# Altium footprint library smd-special.PCBLIB: 55 footprints (part 2 of 4)
Each footprint in its own frame and in the unit in brackets; x right, y up, seen from the top. Pads: shape width x height; smd on the part's side, far side on the other; paste and mask are expansions set on the pad; w line width, h text height; cw(c..) or ccw(c..) is an arc to the next point about the centre after c.
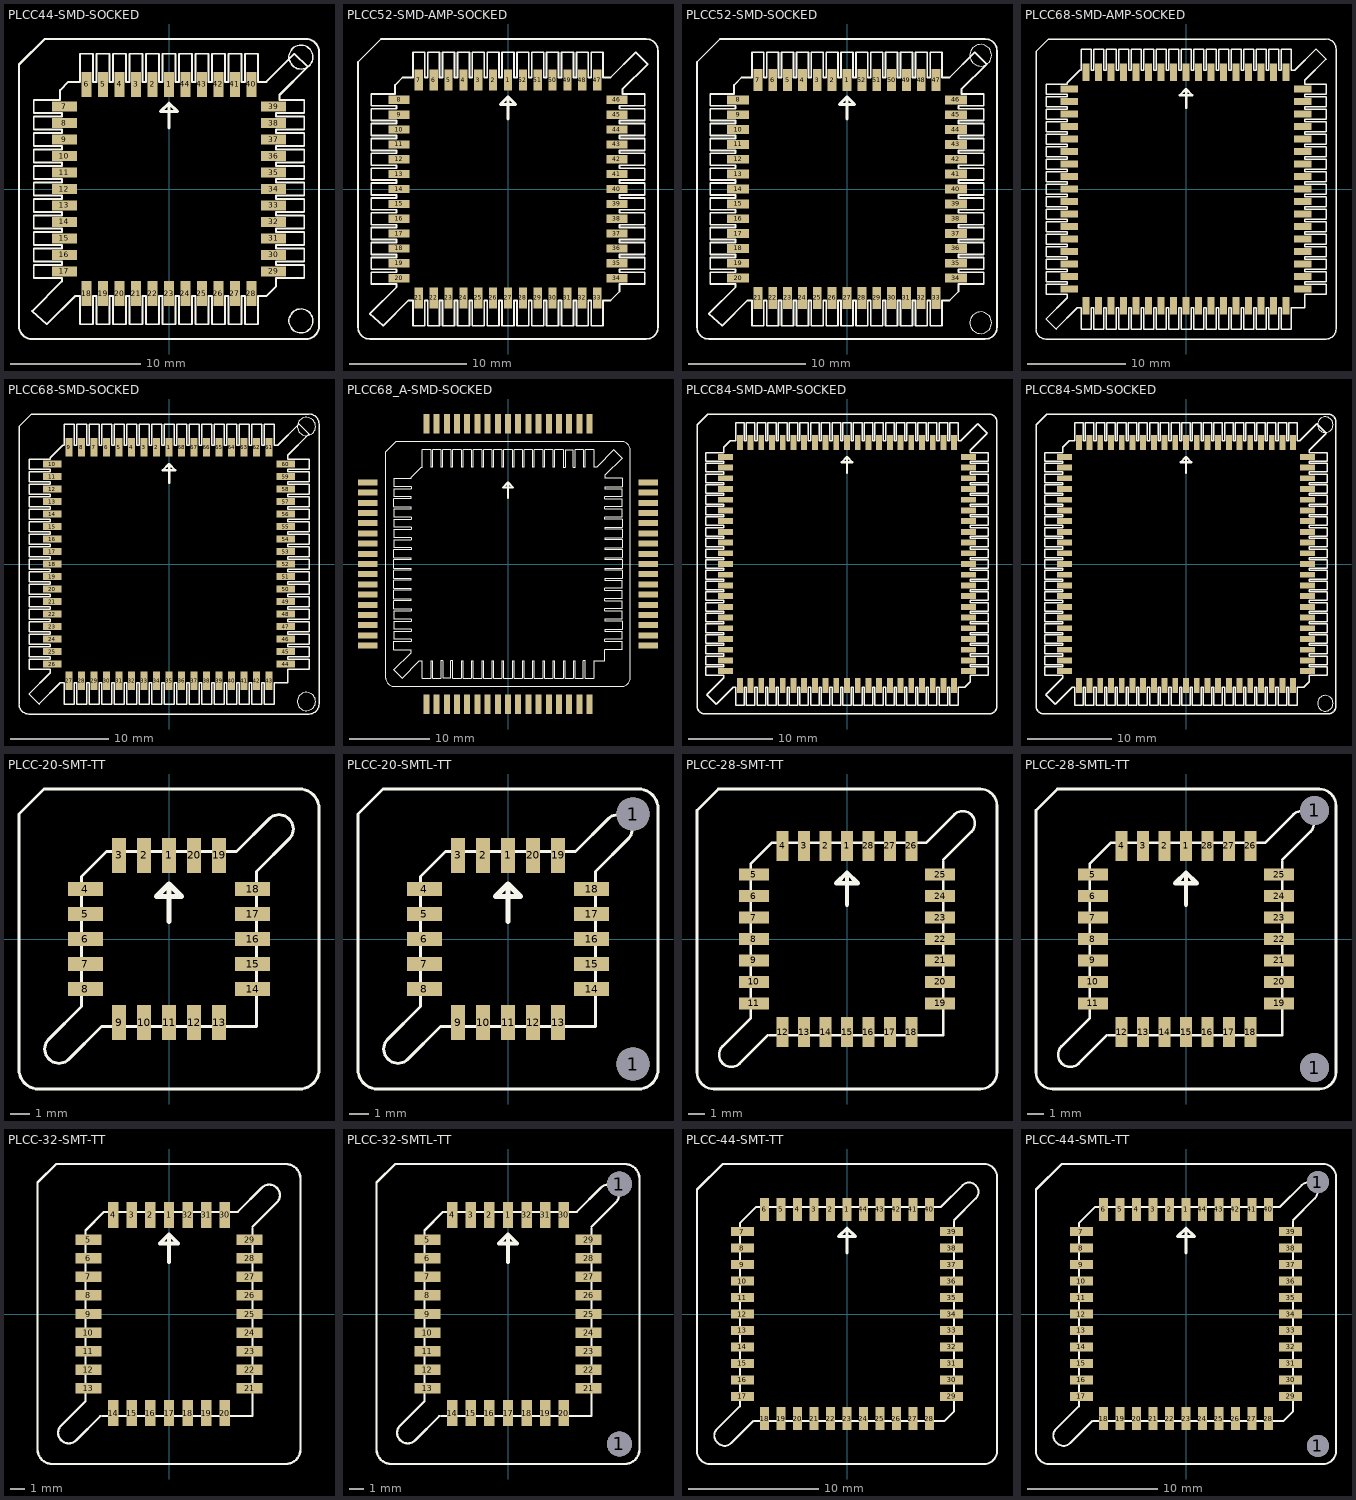
[diagram p1: the footprints below, top view; thin cyan lines are the x and y axes]

## PLCC44-SMD-SOCKED [mil]
pads (44):
  rect 29.92x75.2 smd: 1(0,317.13) 2(-50,317.13) 3(-100,317.13) 4(-150,317.13) 5(-200,317.13) 6(-250,317.13) 18(-250,-317.13) 19(-200,-317.13) 20(-150,-317.13) 21(-100,-317.13) 22(-50,-317.13) 23(0,-317.13) 24(50,-317.13) 25(100,-317.13) 26(150,-317.13) 27(200,-317.13) 28(250,-317.13) 40(250,317.13) 41(200,317.13) 42(150,317.13) 43(100,317.13) 44(50,317.13)
  rect 75.2x29.92 smd: 7(-317.13,250) 8(-317.13,200) 9(-317.13,150) 10(-317.13,100) 11(-317.13,50) 12(-317.13,0) 13(-317.13,-50) 14(-317.13,-100) 15(-317.13,-150) 16(-317.13,-200) 17(-317.13,-250) 29(317.13,-250) 30(317.13,-200) 31(317.13,-150) 32(317.13,-100) 33(317.13,-50) 34(317.01,0) 35(317.13,50) 36(317.13,100) 37(317.13,150) 38(317.13,200) 39(317.13,250)
Top Overlay:
  drawing of 202 lines, arcs and shapes, not listed

## PLCC52-SMD-AMP-SOCKED [mil]
pads (52):
  rect 27.56x70.08 smd: 1(0,366.54) 2(-50,366.54) 3(-100,366.54) 4(-150,366.54) 5(-200,366.54) 6(-250,366.54) 7(-300,366.54) 21(-300,-366.54) 22(-250,-366.54) 23(-200,-366.54) 24(-150,-366.54) 25(-100,-366.54) 26(-50,-366.54) 27(0,-366.54) 28(50,-366.54) 29(100,-366.54) 30(150,-366.54) 31(200,-366.54) 32(250,-366.54) 33(300,-366.54) 47(300,366.54) 48(250,366.54) 49(200,366.54) 50(150,366.54) 51(100,366.54) 52(50,366.54)
  rect 70.08x27.56 smd: 8(-366.54,300) 9(-366.54,250) 10(-366.54,200) 11(-366.54,150) 12(-366.54,100) 13(-366.54,50) 14(-366.54,0) 15(-366.54,-50) 16(-366.54,-100) 17(-366.54,-150) 18(-366.54,-200) 19(-366.54,-250) 20(-366.54,-300) 34(366.54,-300) 35(366.54,-250) 36(366.54,-200) 37(366.54,-150) 38(366.54,-100) 39(366.54,-50) 40(366.54,0) 41(366.54,50) 42(366.54,100) 43(366.54,150) 44(366.54,200) 45(366.54,250) 46(366.54,300)
Top Overlay:
  drawing of 232 lines, arcs and shapes, not listed

## PLCC52-SMD-SOCKED [mil]
pads (52):
  rect 29.92x75.2 smd: 1(0,366.54) 2(-50,366.54) 3(-100,366.54) 4(-150,366.54) 5(-200,366.54) 6(-250,366.54) 7(-300,366.54) 21(-300,-366.54) 22(-250,-366.54) 23(-200,-366.54) 24(-150,-366.54) 25(-100,-366.54) 26(-50,-366.54) 27(0,-366.54) 28(50,-366.54) 29(100,-366.54) 30(150,-366.54) 31(200,-366.54) 32(250,-366.54) 33(300,-366.54) 47(300,366.54) 48(250,366.54) 49(200,366.54) 50(150,366.54) 51(100,366.54) 52(50,366.54)
  rect 75.2x29.92 smd: 8(-366.54,300) 9(-366.54,250) 10(-366.54,200) 11(-366.54,150) 12(-366.54,100) 13(-366.54,50) 14(-366.54,0) 15(-366.54,-50) 16(-366.54,-100) 17(-366.54,-150) 18(-366.54,-200) 19(-366.54,-250) 20(-366.54,-300) 34(366.54,-300) 35(366.54,-250) 36(366.54,-200) 37(366.54,-150) 38(366.54,-100) 39(366.54,-50) 40(366.54,0) 41(366.54,50) 42(366.54,100) 43(366.54,150) 44(366.54,200) 45(366.54,250) 46(366.54,300)
Top Overlay:
  drawing of 234 lines, arcs and shapes, not listed

## PLCC68-SMD-AMP-SOCKED [mil]
pads (68):
  rect 27.56x70.08 smd: 1(0,467.13) 2(-50,467.13) 3(-100,467.13) 4(-150,467.13) 5(-200,467.13) 6(-250,467.13) 7(-300,467.13) 8(-350,467.13) 9(-400,467.13) 27(-400,-467.13) 28(-350,-467.13) 29(-300,-467.13) 30(-250,-467.13) 31(-200,-467.13) 32(-150,-467.13) 33(-100,-467.13) 34(-50,-467.13) 35(0,-467.13) 36(50,-467.13) 37(100,-467.13) 38(150,-467.13) 39(200,-467.13) 40(250,-467.13) 41(300,-467.13) 42(350,-467.13) 43(400,-467.13) 61(400,467.13) 62(350,467.13) 63(300,467.13) 64(250,467.13) 65(200,467.13) 66(150,467.13) 67(100,467.13) 68(50,467.13)
  rect 70.08x27.56 smd: 10(-467.13,400) 11(-467.13,350) 12(-467.13,300) 13(-467.13,250) 14(-467.13,200) 15(-467.13,150) 16(-467.13,100) 17(-467.13,50) 18(-467.13,0) 19(-467.13,-50) 20(-467.13,-100) 21(-467.13,-150) 22(-467.13,-200) 23(-467.13,-250) 24(-467.13,-300) 25(-467.13,-350) 26(-467.13,-400) 44(467.13,-400) 45(467.13,-350) 46(467.13,-300) 47(467.13,-250) 48(467.13,-200) 49(467.13,-150) 50(467.13,-100) 51(467.13,-50) 52(467.13,0) 53(467.13,50) 54(467.13,100) 55(467.13,150) 56(467.13,200) 57(467.13,250) 58(467.13,300) 59(467.13,350) 60(467.13,400)
Top Overlay:
  drawing of 295 lines, arcs and shapes, not listed

## PLCC68-SMD-SOCKED [mil]
pads (68):
  rect 29.92x75.2 smd: 1(0,467.13) 2(-50,467.13) 3(-100,467.13) 4(-150,467.13) 5(-200,467.13) 6(-250,467.13) 7(-300,467.13) 8(-350,467.13) 9(-400,467.13) 27(-400,-467.13) 28(-350,-467.13) 29(-300,-467.13) 30(-250,-467.13) 31(-200,-467.13) 32(-150,-467.13) 33(-100,-467.13) 34(-50,-467.13) 35(0,-467.13) 36(50,-467.13) 37(100,-467.13) 38(150,-467.13) 39(200,-467.13) 40(250,-467.13) 41(300,-467.13) 42(350,-467.13) 43(400,-467.13) 61(400,467.13) 62(350,467.13) 63(300,467.13) 64(250,467.13) 65(200,467.13) 66(150,467.13) 67(100,467.13) 68(50,467.13)
  rect 75.2x29.92 smd: 10(-467.13,400) 11(-467.13,350) 12(-467.13,300) 13(-467.13,250) 14(-467.13,200) 15(-467.13,150) 16(-467.13,100) 17(-467.13,50) 18(-467.13,0) 19(-467.13,-50) 20(-467.13,-100) 21(-467.13,-150) 22(-467.13,-200) 23(-467.13,-250) 24(-467.13,-300) 25(-467.13,-350) 26(-467.13,-400) 44(467.13,-400) 45(467.13,-350) 46(467.13,-300) 47(467.13,-250) 48(467.13,-200) 49(467.13,-150) 50(467.13,-100) 51(467.13,-50) 52(467.13,0) 53(467.13,50) 54(467.13,100) 55(467.13,150) 56(467.13,200) 57(467.13,250) 58(467.13,300) 59(467.13,350) 60(467.13,400)
Top Overlay:
  drawing of 297 lines, arcs and shapes, not listed

## PLCC68_A-SMD-SOCKED [mm]
pads (68):
  rect 0.75x2.4 smd: 1(0,17.495) 2(-1.27,17.495) 3(-2.54,17.495) 4(-3.81,17.495) 5(-5.08,17.495) 6(-6.35,17.495) 7(-7.62,17.495) 8(-8.89,17.495) 9(-10.16,17.495) 27(-10.16,-17.495) 28(-8.89,-17.495) 29(-7.62,-17.495) 30(-6.35,-17.495) 31(-5.08,-17.495) 32(-3.81,-17.495) 33(-2.54,-17.495) 34(-1.27,-17.495) 35(0,-17.495) 36(1.27,-17.495) 37(2.54,-17.495) 38(3.81,-17.495) 39(5.08,-17.495) 40(6.35,-17.495) 41(7.62,-17.495) 42(8.89,-17.495) 43(10.16,-17.495) 61(10.16,17.495) 62(8.89,17.495) 63(7.62,17.495) 64(6.35,17.495) 65(5.08,17.495) 66(3.81,17.495) 67(2.54,17.495) 68(1.27,17.495)
  rect 2.4x0.75 smd: 10(-17.495,10.16) 11(-17.495,8.89) 12(-17.495,7.62) 13(-17.495,6.35) 14(-17.495,5.08) 15(-17.495,3.81) 16(-17.495,2.54) 17(-17.495,1.27) 18(-17.495,0) 19(-17.495,-1.27) 20(-17.495,-2.54) 21(-17.495,-3.81) 22(-17.495,-5.08) 23(-17.495,-6.35) 24(-17.495,-7.62) 25(-17.495,-8.89) 26(-17.495,-10.16) 44(17.495,-10.16) 45(17.495,-8.89) 46(17.495,-7.62) 47(17.495,-6.35) 48(17.495,-5.08) 49(17.495,-3.81) 50(17.495,-2.54) 51(17.495,-1.27) 52(17.495,0) 53(17.495,1.27) 54(17.495,2.54) 55(17.495,3.81) 56(17.495,5.08) 57(17.495,6.35) 58(17.495,7.62) 59(17.495,8.89) 60(17.495,10.16)
Top Overlay:
  drawing of 295 lines, arcs and shapes, not listed

## PLCC84-SMD-AMP-SOCKED [mil]
pads (84):
  rect 27.56x70.08 smd: 1(0,566.93) 2(-50,566.93) 3(-100,566.93) 4(-150,566.93) 5(-200,566.93) 6(-250,566.93) 7(-300,566.93) 8(-350,566.93) 9(-400,566.93) 10(-450,566.93) 11(-500,566.93) 33(-500,-566.93) 34(-450,-566.93) 35(-400,-566.93) 36(-350,-566.93) 37(-300,-566.93) 38(-250,-566.93) 39(-200,-566.93) 40(-150,-566.93) 41(-100,-566.93) 42(-50,-566.93) 43(0,-566.93) 44(50,-566.93) 45(100,-566.93) 46(150,-566.93) 47(200,-566.93) 48(250,-566.93) 49(300,-566.93) 50(350,-566.93) 51(400,-566.93) 52(450,-566.93) 53(500,-566.93) 75(500,566.93) 76(450,566.93) 77(400,566.93) 78(350,566.93) 79(300,566.93) 80(250,566.93) 81(200,566.93) 82(150,566.93) 83(100,566.93) 84(50,566.93)
  rect 70.08x27.56 smd: 12(-566.93,500) 13(-566.93,450) 14(-566.93,400) 15(-566.93,350) 16(-566.93,300) 17(-566.93,250) 18(-566.93,200) 19(-566.93,150) 20(-566.93,100) 21(-566.93,50) 22(-566.93,0) 23(-566.93,-50) 24(-566.93,-100) 25(-566.93,-150) 26(-566.93,-200) 27(-566.93,-250) 28(-566.93,-300) 29(-566.93,-350) 30(-566.93,-400) 31(-566.93,-450) 32(-566.93,-500) 54(566.93,-500) 55(566.93,-450) 56(566.93,-400) 57(566.93,-350) 58(566.93,-300) 59(566.93,-250) 60(566.93,-200) 61(566.93,-150) 62(566.93,-100) 63(566.93,-50) 64(566.93,0) 65(566.93,50) 66(566.93,100) 67(566.93,150) 68(566.93,200) 69(566.93,250) 70(566.93,300) 71(566.93,350) 72(566.93,400) 73(566.93,450) 74(566.93,500)
Top Overlay:
  drawing of 360 lines, arcs and shapes, not listed

## PLCC84-SMD-SOCKED [mil]
pads (84):
  rect 27.56x70.08 smd: 1(0,566.93) 2(-50,566.93) 3(-100,566.93) 4(-150,566.93) 5(-200,566.93) 6(-250,566.93) 7(-300,566.93) 8(-350,566.93) 9(-400,566.93) 10(-450,566.93) 11(-500,566.93) 33(-500,-566.93) 34(-450,-566.93) 35(-400,-566.93) 36(-350,-566.93) 37(-300,-566.93) 38(-250,-566.93) 39(-200,-566.93) 40(-150,-566.93) 41(-100,-566.93) 42(-50,-566.93) 43(0,-566.93) 44(50,-566.93) 45(100,-566.93) 46(150,-566.93) 47(200,-566.93) 48(250,-566.93) 49(300,-566.93) 50(350,-566.93) 51(400,-566.93) 52(450,-566.93) 53(500,-566.93) 75(500,566.93) 76(450,566.93) 77(400,566.93) 78(350,566.93) 79(300,566.93) 80(250,566.93) 81(200,566.93) 82(150,566.93) 83(100,566.93) 84(50,566.93)
  rect 70.08x27.56 smd: 12(-566.93,500) 13(-566.93,450) 14(-566.93,400) 15(-566.93,350) 16(-566.93,300) 17(-566.93,250) 18(-566.93,200) 19(-566.93,150) 20(-566.93,100) 21(-566.93,50) 22(-566.93,0) 23(-566.93,-50) 24(-566.93,-100) 25(-566.93,-150) 26(-566.93,-200) 27(-566.93,-250) 28(-566.93,-300) 29(-566.93,-350) 30(-566.93,-400) 31(-566.93,-450) 32(-566.93,-500) 54(566.93,-500) 55(566.93,-450) 56(566.93,-400) 57(566.93,-350) 58(566.93,-300) 59(566.93,-250) 60(566.93,-200) 61(566.93,-150) 62(566.93,-100) 63(566.93,-50) 64(566.93,0) 65(566.93,50) 66(566.93,100) 67(566.93,150) 68(566.93,200) 69(566.93,250) 70(566.93,300) 71(566.93,350) 72(566.93,400) 73(566.93,450) 74(566.93,500)
Top Overlay:
  drawing of 362 lines, arcs and shapes, not listed

## PLCC-20-SMT-TT [mil]
pads (20):
  rect 27.95x70.08 smd: 1(0,167.13) 2(-50,167.13) 3(-100,167.13) 9(-100,-167.13) 10(-50,-167.13) 11(0,-167.13) 12(50,-167.13) 13(100,-167.13) 19(100,167.13) 20(50,167.13)
  rect 70.08x27.95 smd: 4(-167.13,100) 5(-167.13,50) 6(-167.13,0) 7(-167.13,-50) 8(-167.13,-100) 14(167.13,-100) 15(167.13,-50) 16(167.13,0) 17(167.13,50) 18(167.13,100)
Top Overlay:
  lines w6: -300,-260.63 -300,250 -250,300 260.63,300 cw(c260.63,260.63) 300,260.63 300,-260.63 cw(c260.63,-260.63) 260.63,-300 -260.63,-300 cw(c-260.63,-260.63) -300,-260.63 ; -240.51,-239.49 -239.49,-240.51 ccw(c-220,-221.02) -200.51,-240.51 -135,-175 175,-175 175,135 240.51,200.51 ccw(c221.02,220) 240.51,239.49 239.49,240.51 ccw(c220,221.02) 200.51,240.51 135,175 -125,175 -175,125 -175,-135 -240.51,-200.51 ccw(c-221.02,-220) -240.51,-239.49
  lines w10: 0,35 0,110 ; 0,110 25,85 -25,85 0,110

## PLCC-20-SMTL-TT [mil]
pads (22):
  rect 27.95x70.08 smd: 1(0,167.13) 2(-50,167.13) 3(-100,167.13) 9(-100,-167.13) 10(-50,-167.13) 11(0,-167.13) 12(50,-167.13) 13(100,-167.13) 19(100,167.13) 20(50,167.13)
  round 66.93 hole 66.93: 1(250,-250) 1(250,250)
  rect 70.08x27.95 smd: 4(-167.13,100) 5(-167.13,50) 6(-167.13,0) 7(-167.13,-50) 8(-167.13,-100) 14(167.13,-100) 15(167.13,-50) 16(167.13,0) 17(167.13,50) 18(167.13,100)
Top Overlay:
  lines w6: -300,-260.63 -300,250 -250,300 260.63,300 cw(c260.63,260.63) 300,260.63 300,-260.63 cw(c260.63,-260.63) 260.63,-300 -260.63,-300 cw(c-260.63,-260.63) -300,-260.63 ; -240.51,-239.49 -239.49,-240.51 ccw(c-220,-221.02) -200.51,-240.51 -135,-175 175,-175 175,135 240.51,200.51 ccw(c221.02,220) 240.51,239.49 239.49,240.51 ccw(c220,221.02) 200.51,240.51 135,175 -125,175 -175,125 -175,-135 -240.51,-200.51 ccw(c-221.02,-220) -240.51,-239.49
  lines w10: 0,35 0,110 ; 0,110 25,85 -25,85 0,110

## PLCC-28-SMT-TT [mil]
pads (28):
  rect 27.95x70.08 smd: 1(0,217.13) 2(-50,217.13) 3(-100,217.13) 4(-150,217.13) 12(-150,-217.13) 13(-100,-217.13) 14(-50,-217.13) 15(0,-217.13) 16(50,-217.13) 17(100,-217.13) 18(150,-217.13) 26(150,217.13) 27(100,217.13) 28(50,217.13)
  rect 70.08x27.95 smd: 5(-217.13,150) 6(-217.13,100) 7(-217.13,50) 8(-217.13,0) 9(-217.13,-50) 10(-217.13,-100) 11(-217.13,-150) 19(217.13,-150) 20(217.13,-100) 21(217.13,-50) 22(217.13,0) 23(217.13,50) 24(217.13,100) 25(217.13,150)
Top Overlay:
  lines w6: -185,-225 -250.51,-290.51 cw(c-270,-271.02) -289.49,-290.51 -290.51,-289.49 cw(c-271.02,-270) -290.51,-250.51 -225,-185 -225,175 -175,225 185,225 250.51,290.51 cw(c270,271.02) 289.49,290.51 290.51,289.49 cw(c271.02,270) 290.51,250.51 225,185 ; -180,-225 225,-225 225,180 ; -350,-310.63 ccw(c-310.63,-310.63) -310.63,-350 310.63,-350 ccw(c310.63,-310.63) 350,-310.63 350,310.63 ccw(c310.63,310.63) 310.63,350 -300,350 -350,300 -350,-310.63
  lines w10: 0,80 0,155 ; 0,155 25,130 -25,130 0,155

## PLCC-28-SMTL-TT [mil]
pads (30):
  rect 27.95x70.08 smd: 1(0,217.13) 2(-50,217.13) 3(-100,217.13) 4(-150,217.13) 12(-150,-217.13) 13(-100,-217.13) 14(-50,-217.13) 15(0,-217.13) 16(50,-217.13) 17(100,-217.13) 18(150,-217.13) 26(150,217.13) 27(100,217.13) 28(50,217.13)
  round 66.93 hole 66.93: 1(300,-300) 1(300,300)
  rect 70.08x27.95 smd: 5(-217.13,150) 6(-217.13,100) 7(-217.13,50) 8(-217.13,0) 9(-217.13,-50) 10(-217.13,-100) 11(-217.13,-150) 19(217.13,-150) 20(217.13,-100) 21(217.13,-50) 22(217.13,0) 23(217.13,50) 24(217.13,100) 25(217.13,150)
Top Overlay:
  lines w6: -185,-225 -250.51,-290.51 cw(c-270,-271.02) -289.49,-290.51 -290.51,-289.49 cw(c-271.02,-270) -290.51,-250.51 -225,-185 -225,175 -175,225 185,225 250.51,290.51 cw(c270,271.02) 289.49,290.51 290.51,289.49 cw(c271.02,270) 290.51,250.51 225,185 ; -180,-225 225,-225 225,180 ; -350,-310.63 ccw(c-310.63,-310.63) -310.63,-350 310.63,-350 ccw(c310.63,-310.63) 350,-310.63 350,310.63 ccw(c310.63,310.63) 310.63,350 -300,350 -350,300 -350,-310.63
  lines w10: 0,80 0,155 ; 0,155 25,130 -25,130 0,155

## PLCC-32-SMT-TT [mil]
pads (32):
  rect 27.95x70.08 smd: 1(0,267.13) 2(-50,267.13) 3(-100,267.13) 4(-150,267.13) 14(-150,-267.13) 15(-100,-267.13) 16(-50,-267.13) 17(0,-267.13) 18(50,-267.13) 19(100,-267.13) 20(150,-267.13) 30(150,267.13) 31(100,267.13) 32(50,267.13)
  rect 70.08x27.95 smd: 5(-217.13,200) 6(-217.13,150) 7(-217.13,100) 8(-217.13,50) 9(-217.13,0) 10(-217.13,-50) 11(-217.13,-100) 12(-217.13,-150) 13(-217.13,-200) 21(217.13,-200) 22(217.13,-150) 23(217.13,-100) 24(217.13,-50) 25(217.13,0) 26(217.13,50) 27(217.13,100) 28(217.13,150) 29(217.13,200)
Top Overlay:
  lines w6: -185,-275 -250.51,-340.51 cw(c-270,-321.02) -289.49,-340.51 -290.51,-339.49 cw(c-271.02,-320) -290.51,-300.51 -225,-235 -225,225 -175,275 185,275 250.51,340.51 cw(c270,321.02) 289.49,340.51 290.51,339.49 cw(c271.02,320) 290.51,300.51 225,235 ; -180,-275 225,-275 225,230 ; -353.94,-364.57 -353.94,353.94 -303.94,403.94 314.57,403.94 cw(c314.57,364.57) 353.94,364.57 353.94,-364.57 cw(c314.57,-364.57) 314.57,-403.94 -314.57,-403.94 cw(c-314.57,-364.57) -353.94,-364.57
  lines w10: 0,140 0,215 ; 0,215 25,190 -25,190 0,215

## PLCC-32-SMTL-TT [mil]
pads (34):
  rect 27.95x70.08 smd: 1(0,267.13) 2(-50,267.13) 3(-100,267.13) 4(-150,267.13) 14(-150,-267.13) 15(-100,-267.13) 16(-50,-267.13) 17(0,-267.13) 18(50,-267.13) 19(100,-267.13) 20(150,-267.13) 30(150,267.13) 31(100,267.13) 32(50,267.13)
  round 66.93 hole 66.93: 1(300,-350) 1(300,350)
  rect 70.08x27.95 smd: 5(-217.13,200) 6(-217.13,150) 7(-217.13,100) 8(-217.13,50) 9(-217.13,0) 10(-217.13,-50) 11(-217.13,-100) 12(-217.13,-150) 13(-217.13,-200) 21(217.13,-200) 22(217.13,-150) 23(217.13,-100) 24(217.13,-50) 25(217.13,0) 26(217.13,50) 27(217.13,100) 28(217.13,150) 29(217.13,200)
Top Overlay:
  lines w6: -185,-275 -250.51,-340.51 cw(c-270,-321.02) -289.49,-340.51 -290.51,-339.49 cw(c-271.02,-320) -290.51,-300.51 -225,-235 -225,225 -175,275 185,275 250.51,340.51 cw(c270,321.02) 289.49,340.51 290.51,339.49 cw(c271.02,320) 290.51,300.51 225,235 ; -180,-275 225,-275 225,230 ; -353.94,-364.57 -353.94,353.94 -303.94,403.94 314.57,403.94 cw(c314.57,364.57) 353.94,364.57 353.94,-364.57 cw(c314.57,-364.57) 314.57,-403.94 -314.57,-403.94 cw(c-314.57,-364.57) -353.94,-364.57
  lines w10: 0,140 0,215 ; 0,215 25,190 -25,190 0,215

## PLCC-44-SMT-TT [mil]
pads (44):
  rect 27.95x70.08 smd: 1(0,317.13) 2(-50,317.13) 3(-100,317.13) 4(-150,317.13) 5(-200,317.13) 6(-250,317.13) 18(-250,-317.13) 19(-200,-317.13) 20(-150,-317.13) 21(-100,-317.13) 22(-50,-317.13) 23(0,-317.13) 24(50,-317.13) 25(100,-317.13) 26(150,-317.13) 27(200,-317.13) 28(250,-317.13) 40(250,317.13) 41(200,317.13) 42(150,317.13) 43(100,317.13) 44(50,317.13)
  rect 70.08x27.95 smd: 7(-317.13,250) 8(-317.13,200) 9(-317.13,150) 10(-317.13,100) 11(-317.13,50) 12(-317.13,0) 13(-317.13,-50) 14(-317.13,-100) 15(-317.13,-150) 16(-317.13,-200) 17(-317.13,-250) 29(317.13,-250) 30(317.13,-200) 31(317.13,-150) 32(317.13,-100) 33(317.13,-50) 34(317.01,0) 35(317.13,50) 36(317.13,100) 37(317.13,150) 38(317.13,200) 39(317.13,250)
Top Overlay:
  lines w6: -285,-325 -351.63,-391.63 cw(c-371.11,-372.14) -389.42,-392.74 -393.15,-389.42 cw(c-374.83,-368.82) -394.33,-349.33 -325,-280 -325,275 -275,325 285,325 350.51,390.51 cw(c370,371.02) 389.49,390.51 390.51,389.49 cw(c371.02,370) 390.51,350.51 325,285 ; -280,-325 295,-325 325,-295 325,280 ; -454.69,-415.32 -454.69,377.44 -377.28,454.69 415.32,454.69 cw(c415.32,415.32) 454.69,415.32 454.69,-415.32 cw(c415.32,-415.32) 415.32,-454.69 -415.32,-454.69 cw(c-415.32,-415.32) -454.69,-415.32
  lines w10: 0,185 0,260 ; 0,260 25,235 -25,235 0,260

## PLCC-44-SMTL-TT [mil]
pads (46):
  rect 27.95x70.08 smd: 1(0,317.13) 2(-50,317.13) 3(-100,317.13) 4(-150,317.13) 5(-200,317.13) 6(-250,317.13) 18(-250,-317.13) 19(-200,-317.13) 20(-150,-317.13) 21(-100,-317.13) 22(-50,-317.13) 23(0,-317.13) 24(50,-317.13) 25(100,-317.13) 26(150,-317.13) 27(200,-317.13) 28(250,-317.13) 40(250,317.13) 41(200,317.13) 42(150,317.13) 43(100,317.13) 44(50,317.13)
  round 66.93 hole 66.93: 1(400,-400) 1(400,400)
  rect 70.08x27.95 smd: 7(-317.13,250) 8(-317.13,200) 9(-317.13,150) 10(-317.13,100) 11(-317.13,50) 12(-317.13,0) 13(-317.13,-50) 14(-317.13,-100) 15(-317.13,-150) 16(-317.13,-200) 17(-317.13,-250) 29(317.13,-250) 30(317.13,-200) 31(317.13,-150) 32(317.13,-100) 33(317.13,-50) 34(317.01,0) 35(317.13,50) 36(317.13,100) 37(317.13,150) 38(317.13,200) 39(317.13,250)
Top Overlay:
  lines w6: -285,-325 -351.63,-391.63 cw(c-371.12,-372.09) -389.42,-392.74 -393.15,-389.42 cw(c-374.83,-368.82) -394.33,-349.33 -325,-280 -325,275 -275,325 285,325 350.51,390.51 cw(c370,371.02) 389.49,390.51 390.51,389.49 cw(c371.02,370) 390.51,350.51 325,285 ; -280,-325 295,-325 325,-295 325,280 ; -454.69,-415.32 -454.69,377.44 -377.28,454.69 415.32,454.69 cw(c415.32,415.32) 454.69,415.32 454.69,-415.32 cw(c415.32,-415.32) 415.32,-454.69 -415.32,-454.69 cw(c-415.32,-415.32) -454.69,-415.32
  lines w10: 0,185 0,260 ; 0,260 25,235 -25,235 0,260